# Altium schematic symbol library 1N4007.SchLib: 2 symbols
Pins are listed as number, name and electrical type; pins without a type are passive.

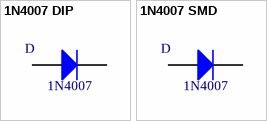
[diagram p0: symbols 1N4007 DIP to 1N4007 SMD]

## 1N4007 DIP
designator D  value 1N4007  (hidden comment: *)
Manufacturer: MULTICOMP; Current: 1A; Voltage: 2.5KV; Farnell Code: 9565051; Manufacturer Code: 1N4007; MOQ: 1; Unit Price: 0,055 €
footprint DO41 Vertical (Footprint not found)
footprint DO41 (Footprint not found)
pins: 1 K, 2 A

## 1N4007 SMD
designator D  value 1N4007  (hidden comment: *)
footprint SMB
pins: 1 K, 2 A